# EAGLE library part REG710NA-5/3K (library faun)
Buck/Boost Charge Pump
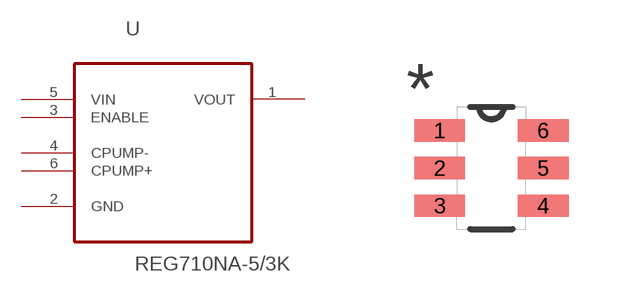
[diagram p3: symbol with the pads of SOT95P280X145-6N; footprint SOT95P280X145-6N]

Designator prefix U

## REG710NA-5/3K (MPN: REG710NA-5/3K; PACKAGE: SOT-23-6; SUPPLIER: Texas Instruments)  [SOT95P280X145-6N]
1  VOUT  out
2  GND  pas
3  ENABLE  in
4  CPUMP-  in
5  VIN  in
6  CPUMP+  in

## Footprint SOT95P280X145-6N (pad centres in mm)
smd 1.27 x 0.559: 1 -1.295,0.94; 2 -1.295,0; 3 -1.295,-0.94; 4 1.295,-0.94; 5 1.295,0; 6 1.295,0.94